# Altium schematic symbol library Connector.SCHLIB: 82 symbols
Pins are listed as number, name and electrical type; pins without a type are passive.

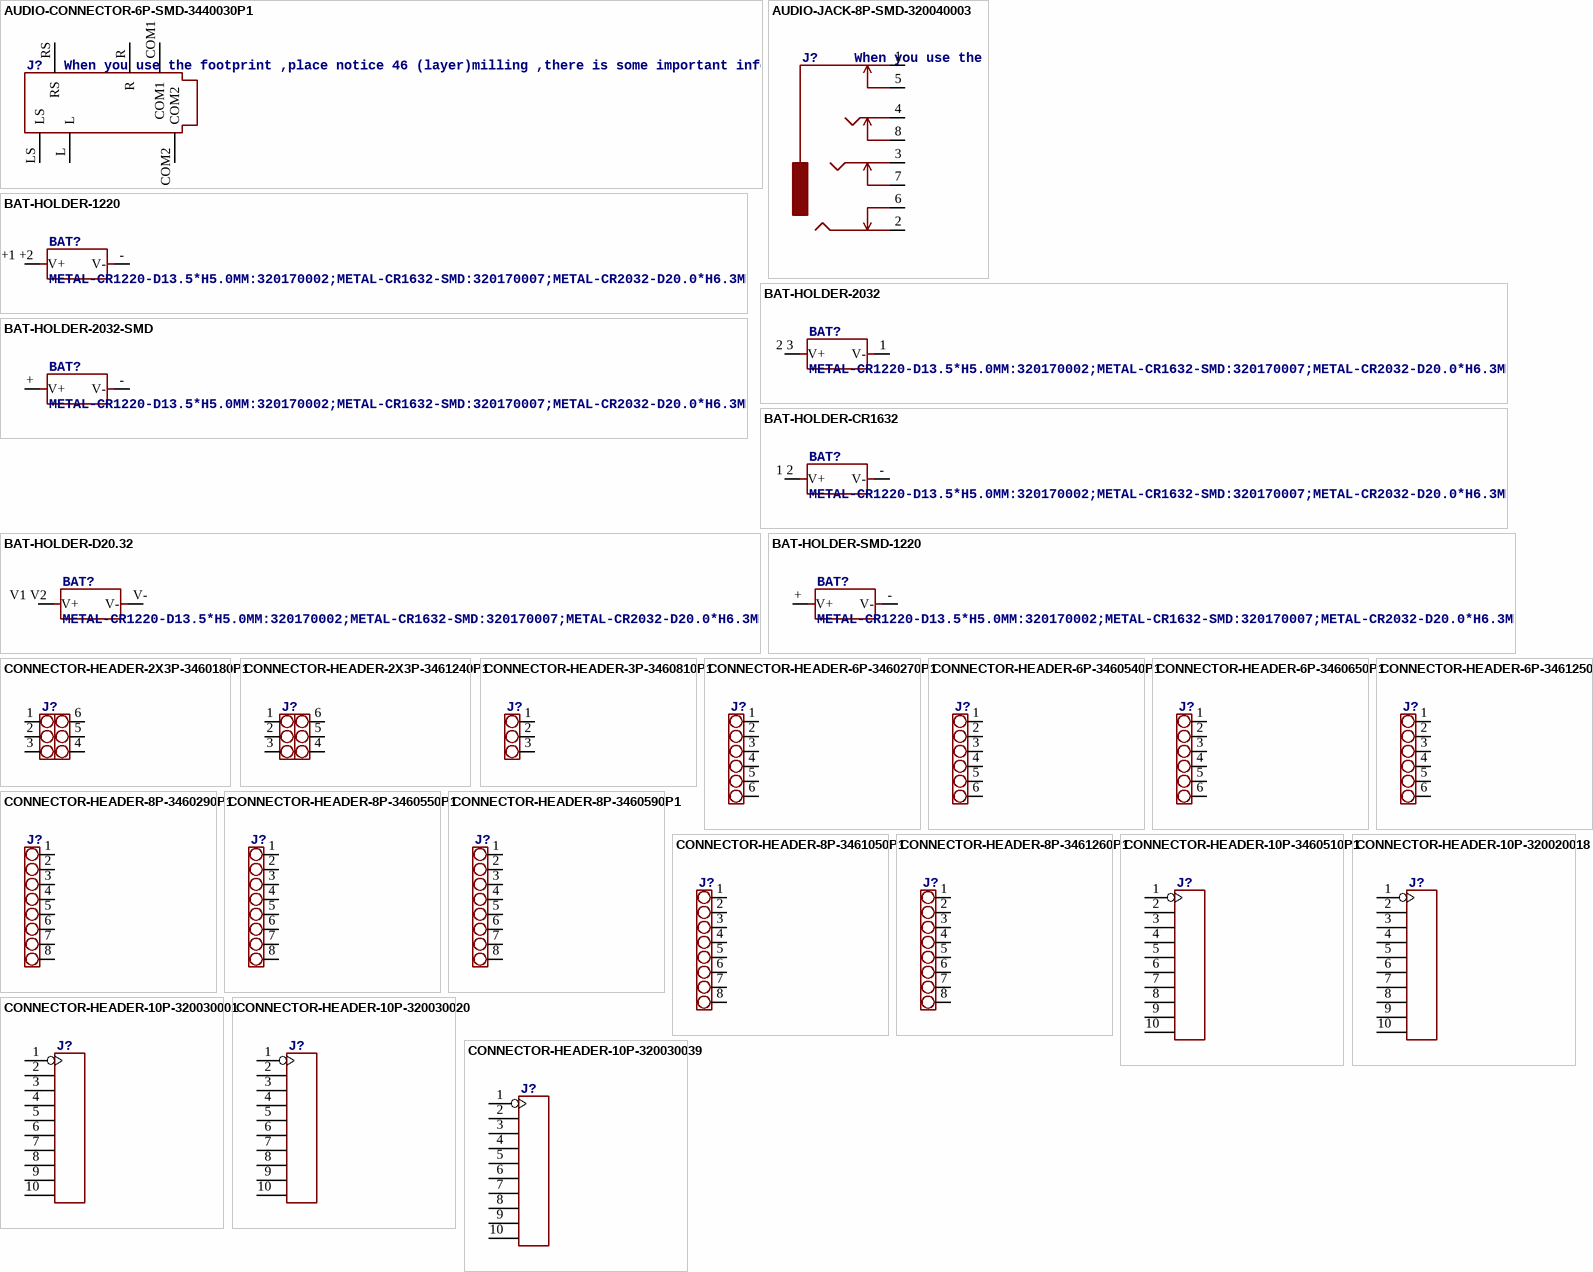
[diagram p0: symbols AUDIO-CONNECTOR-6P-SMD-3440030P1 to CONNECTOR-HEADER-10P-320030039]

## AUDIO-CONNECTOR-6P-SMD-3440030P1
designator J?, comment When you use the footprint ,place notice 46 (layer)milling ,there is some important information.
footprint 6P-SMD-3.5
pins: COM1, COM2, L, LS, R, RS

## AUDIO-JACK-8P-SMD-320040003
designator J?, comment When you use the footprint ,place notice 46 (layer)milling ,there is some important information.
footprint PJ-3536-L6S
pins: 1, 2, 3, 4, 5, 6, 7, 8

## BAT-HOLDER-1220
designator BAT?, comment METAL-CR1220-D13.5*H5.0MM:320170002;METAL-CR1632-SMD:320170007;METAL-CR2032-D20.0*H6.3MM:320170003;METAL-CR2032-SMD:320170006;PLASTIC-CR1220-L15.06*W13.0*H4.1MM:320170000;PLASTIC-CR2032-L25.2*W15.6*H5.2MM:320170005
footprint METAL-CR1220-D13.5XH5.0MM
pins: +1 +2 V+, - V-

## BAT-HOLDER-2032
designator BAT?, comment METAL-CR1220-D13.5*H5.0MM:320170002;METAL-CR1632-SMD:320170007;METAL-CR2032-D20.0*H6.3MM:320170003;METAL-CR2032-SMD:320170006;PLASTIC-CR1220-L15.06*W13.0*H4.1MM:320170000;PLASTIC-CR2032-L25.2*W15.6*H5.2MM:320170005
footprint METAL-CR2032-D20.0XH6.3MM
pins: 1 V-, 2 3 V+

## BAT-HOLDER-2032-SMD
designator BAT?, comment METAL-CR1220-D13.5*H5.0MM:320170002;METAL-CR1632-SMD:320170007;METAL-CR2032-D20.0*H6.3MM:320170003;METAL-CR2032-SMD:320170006;PLASTIC-CR1220-L15.06*W13.0*H4.1MM:320170000;PLASTIC-CR2032-L25.2*W15.6*H5.2MM:320170005
footprint PLASTIC-CR2032-L25.2XW15.6XH5.2MM
pins: + V+, - V-

## BAT-HOLDER-CR1632
designator BAT?, comment METAL-CR1220-D13.5*H5.0MM:320170002;METAL-CR1632-SMD:320170007;METAL-CR2032-D20.0*H6.3MM:320170003;METAL-CR2032-SMD:320170006;PLASTIC-CR1220-L15.06*W13.0*H4.1MM:320170000;PLASTIC-CR2032-L25.2*W15.6*H5.2MM:320170005
footprint METAL-CR1632-SMD
pins: 1 2 V+, - V-

## BAT-HOLDER-D20.32
designator BAT?, comment METAL-CR1220-D13.5*H5.0MM:320170002;METAL-CR1632-SMD:320170007;METAL-CR2032-D20.0*H6.3MM:320170003;METAL-CR2032-SMD:320170006;PLASTIC-CR1220-L15.06*W13.0*H4.1MM:320170000;PLASTIC-CR2032-L25.2*W15.6*H5.2MM:320170005
footprint METAL-CR2032-SMD
pins: V1 V2 V+, V-

## BAT-HOLDER-SMD-1220
designator BAT?, comment METAL-CR1220-D13.5*H5.0MM:320170002;METAL-CR1632-SMD:320170007;METAL-CR2032-D20.0*H6.3MM:320170003;METAL-CR2032-SMD:320170006;PLASTIC-CR1220-L15.06*W13.0*H4.1MM:320170000;PLASTIC-CR2032-L25.2*W15.6*H5.2MM:320170005
footprint PLASTIC-CR1220-L15.06XW13.0XH4.1MM
pins: + V+, - V-

## CONNECTOR-HEADER-2X3P-3460180P1
designator J?
footprint 2X3P-2.54-2.54-11.6-3.0-BLACK-MALE
pins: 1, 2, 3, 4, 5, 6

## CONNECTOR-HEADER-2X3P-3461240P1
designator J?
footprint 2X3P-2.54-8.5+1.5-12.3-BLUE-FEMALE
pins: 1, 2, 3, 4, 5, 6

## CONNECTOR-HEADER-3P-3460810P1
designator J?
footprint 1X3P-2.54-2.54-11.6-3.0-BLACK-MALE
pins: 1, 2, 3

## CONNECTOR-HEADER-6P-3460270P1
designator J?
footprint 1X6P-2.54-8.5-BLACK-FEMALE
pins: 1, 2, 3, 4, 5, 6

## CONNECTOR-HEADER-6P-3460540P1
designator J?
footprint 1X6P-2.54-8.5-WHITE-FEMALE
pins: 1, 2, 3, 4, 5, 6

## CONNECTOR-HEADER-6P-3460650P1
designator J?
footprint 1X6P-2.54-2.54-11.6-3.0-BLACK-MALE
pins: 1, 2, 3, 4, 5, 6

## CONNECTOR-HEADER-6P-3461250P1
designator J?
footprint 1X6P-2.54-8.5+2.5-12.3-BLUE-FEMALE
pins: 1, 2, 3, 4, 5, 6

## CONNECTOR-HEADER-8P-3460290P1
designator J?
footprint 1X8P-2.54-8.5-BLACK-FEMALE
pins: 1, 2, 3, 4, 5, 6, 7, 8

## CONNECTOR-HEADER-8P-3460550P1
designator J?
footprint 1X8P-2.54-8.5-WHITE-FEMALE
pins: 1, 2, 3, 4, 5, 6, 7, 8

## CONNECTOR-HEADER-8P-3460590P1
designator J?
footprint 1X8P-2.54-8.5-YELLOW-FEMALE
pins: 1, 2, 3, 4, 5, 6, 7, 8

## CONNECTOR-HEADER-8P-3461050P1
designator J?
footprint 1X8P-2.54-2.54-11.6-3.0-BALCK-MALE
pins: 1, 2, 3, 4, 5, 6, 7, 8

## CONNECTOR-HEADER-8P-3461260P1
designator J?
footprint 1X8P-2.54-8.5+2.5-12.3-BLUE-FEMALE
pins: 1, 2, 3, 4, 5, 6, 7, 8

## CONNECTOR-HEADER-10P-3460510P1
designator J?
footprint 1X10P-2.0-4.3-BLUE-FEMALE
pins: 1, 2, 3, 4, 5, 6, 7, 8, 9, 10

## CONNECTOR-HEADER-10P-320020018
designator J?
footprint 1X10P-2.0-WHITE-MALE
pins: 1, 2, 3, 4, 5, 6, 7, 8, 9, 10

## CONNECTOR-HEADER-10P-320030001
designator J?
footprint 1X10P-2.54-8.5--BLUE-FEMALE
pins: 1, 2, 3, 4, 5, 6, 7, 8, 9, 10

## CONNECTOR-HEADER-10P-320030020
designator J?
footprint 1X10P-2.0-WHITE-FEMALE
pins: 1, 2, 3, 4, 5, 6, 7, 8, 9, 10

## CONNECTOR-HEADER-10P-320030039
designator J?
footprint 1X10P-2.54-8.5-BLACK-FEMALE
pins: 1, 2, 3, 4, 5, 6, 7, 8, 9, 10

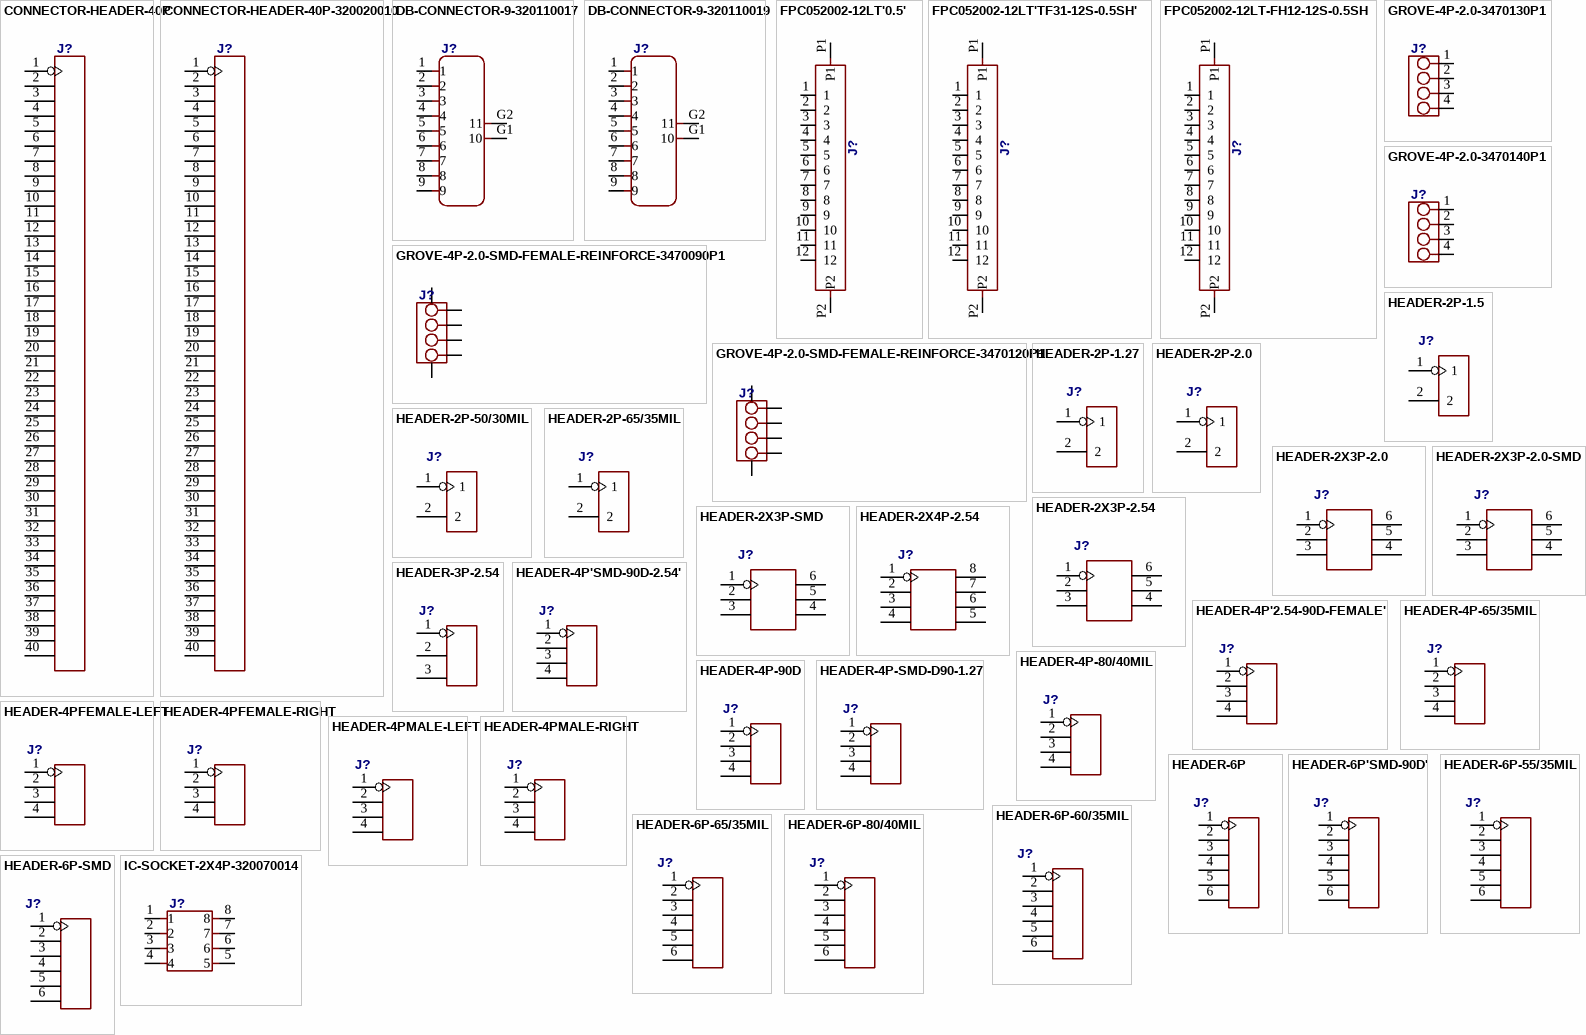
[diagram p1: symbols CONNECTOR-HEADER-40P to IC-SOCKET-2X4P-320070014]

## CONNECTOR-HEADER-40P
designator J?
footprint 1*40P-2.0-2.0-8.7-2.8MM
pins: 1 P$1, 2 P$2, 3 P$3, 4 P$4, 5 P$5, 6 P$6, 7 P$7, 8 P$8, 9 P$9, 10 P$10, 11 P$11, 12 P$12, 13 P$13, 14 P$14, 15 P$15, 16 P$16, 17 P$17, 18 P$18, 19 P$19, 20 P$20, 21 P$21, 22 P$22, 23 P$23, 24 P$24, 25 P$25, 26 P$26, 27 P$27, 28 P$28, 29 P$29, 30 P$30, 31 P$31, 32 P$32, 33 P$33, 34 P$34, 35 P$35, 36 P$36, 37 P$37, 38 P$38, 39 P$39, 40 P$40

## CONNECTOR-HEADER-40P-320020010
designator J?
footprint 1X40P-2.54-2.54-11.6-3.0-BALCK-MALE
pins: 1 P$1, 2 P$2, 3 P$3, 4 P$4, 5 P$5, 6 P$6, 7 P$7, 8 P$8, 9 P$9, 10 P$10, 11 P$11, 12 P$12, 13 P$13, 14 P$14, 15 P$15, 16 P$16, 17 P$17, 18 P$18, 19 P$19, 20 P$20, 21 P$21, 22 P$22, 23 P$23, 24 P$24, 25 P$25, 26 P$26, 27 P$27, 28 P$28, 29 P$29, 30 P$30, 31 P$31, 32 P$32, 33 P$33, 34 P$34, 35 P$35, 36 P$36, 37 P$37, 38 P$38, 39 P$39, 40 P$40

## DB-CONNECTOR-9-320110017
designator J?
footprint 9+2P-2.77-MALE
pins: 1, 2, 3, 4, 5, 6, 7, 8, 9, G1 10, G2 11

## DB-CONNECTOR-9-320110019
designator J?
footprint 9+2P-2.77-FEMALE
pins: 1, 2, 3, 4, 5, 6, 7, 8, 9, G1 10, G2 11

## FPC052002-12LT'0.5'
designator J?
footprint 12P-0.5
pins: 1, 2, 3, 4, 5, 6, 7, 8, 9, 10, 11, 12, P1, P2

## FPC052002-12LT'TF31-12S-0.5SH'
designator J?
footprint 12P-SMD-0.5-90D
pins: 1, 2, 3, 4, 5, 6, 7, 8, 9, 10, 11, 12, P1, P2

## FPC052002-12LT-FH12-12S-0.5SH
designator J?
footprint 12P-0.5-NEW
pins: 1, 2, 3, 4, 5, 6, 7, 8, 9, 10, 11, 12, P1, P2

## GROVE-4P-2.0-3470130P1
designator J?
footprint 4P-2.0
pins: 1, 2, 3, 4

## GROVE-4P-2.0-3470140P1
designator J?
footprint 4P-2.0-90D
pins: 1, 2, 3, 4

## GROVE-4P-2.0-SMD-FEMALE-REINFORCE-3470090P1
designator J?
footprint 4P-SMD-2.0
pins: 1, 2, 3, 4, SS1, SS2

## GROVE-4P-2.0-SMD-FEMALE-REINFORCE-3470120P1
designator J?
footprint 4P-SMD-2.0-90D
pins: 1, 2, 3, 4, SS1, SS2

## HEADER-2P-1.5
designator J?
footprint 2P-1.5-40/25MIL
pins: 1, 2

## HEADER-2P-1.27
designator J?
footprint 2P-1.27-40/25MIL
pins: 1, 2

## HEADER-2P-2.0
designator J?
footprint 2P-2.0-55/32MIL
pins: 1, 2

## HEADER-2P-50/30MIL
designator J?
footprint 2P-2.0-50/30MIL
pins: 1, 2

## HEADER-2P-65/35MIL
designator J?
footprint 2P-2.54-65/35MIL
pins: 1, 2

## HEADER-2X3P-2.0
designator J?
footprint 2X3P-2.0-50/32MIL
pins: 1, 2, 3, 4, 5, 6

## HEADER-2X3P-2.0-SMD
designator J?
footprint 2X3P-SMD-2.0
pins: 1, 2, 3, 4, 5, 6

## HEADER-2X3P-2.54
designator J?
footprint 2X3P-2.54-65/35MIL
pins: 1, 2, 3, 4, 5, 6

## HEADER-2X3P-SMD
designator J?
footprint 2X3P-SMD-2.54
pins: 1, 2, 3, 4, 5, 6

## HEADER-2X4P-2.54
designator J?
footprint 2X4P-2.54-65/35MIL
pins: 1, 2, 3, 4, 5, 6, 7, 8

## HEADER-3P-2.54
designator J?
footprint 3P-2.54-65/35MIL
pins: 1 P$1, 2 P$2, 3 P$3

## HEADER-4P'2.54-90D-FEMALE'
designator J?
footprint 4P-2.54-90D-65/35MIL-FEMALE
pins: 1 P$1, 2 P$2, 3 P$3, 4 P$4

## HEADER-4P'SMD-90D-2.54'
designator J?
footprint 4P-SMD-2.54-90D-FEMALE
pins: 1 P$1, 2 P$2, 3 P$3, 4 P$4

## HEADER-4P-65/35MIL
designator J?
footprint 4P-2.54-65/35MIL
pins: 1 P$1, 2 P$2, 3 P$3, 4 P$4

## HEADER-4P-80/40MIL
designator J?
footprint 4P-2.54-80/40MIL
pins: 1 P$1, 2 P$2, 3 P$3, 4 P$4

## HEADER-4P-90D
designator J?
footprint 4P-2.54-90D-65/35MIL-MALE
pins: 1 P$1, 2 P$2, 3 P$3, 4 P$4

## HEADER-4P-SMD-D90-1.27
designator J?
footprint 4P-SMD-1.27-90D
pins: 1 P$1, 2 P$2, 3 P$3, 4 P$4

## HEADER-4PFEMALE-LEFT
designator J?
footprint 4P-2.0-65/35MIL-90D-FEMALE-LEFT
pins: 1 P$1, 2 P$2, 3 P$3, 4 P$4

## HEADER-4PFEMALE-RIGHT
designator J?
footprint 4P-2.0-65/35MIL-90D-FEMALE-RIGHT
pins: 1 P$1, 2 P$2, 3 P$3, 4 P$4

## HEADER-4PMALE-LEFT
designator J?
footprint 4P-2.0-65/35MIL-90D-MALE-LEFT
pins: 1 P$1, 2 P$2, 3 P$3, 4 P$4

## HEADER-4PMALE-RIGHT
designator J?
footprint 4P-2.0-65/35MIL-90D-MALE-RIGHT
pins: 1 P$1, 2 P$2, 3 P$3, 4 P$4

## HEADER-6P
designator J?
footprint 6P-2.0-60/32MIL
pins: 1, 2, 3, 4, 5, 6

## HEADER-6P'SMD-90D'
designator J?
footprint 6P-SMD-2.54-90D
pins: 1, 2, 3, 4, 5, 6

## HEADER-6P-55/35MIL
designator J?
footprint 6P-2.54-55/35MIL
pins: 1, 2, 3, 4, 5, 6

## HEADER-6P-60/35MIL
designator J?
footprint 6P-2.54-60/35MIL
pins: 1, 2, 3, 4, 5, 6

## HEADER-6P-65/35MIL
designator J?
footprint 6P-2.54-65/35MIL
pins: 1, 2, 3, 4, 5, 6

## HEADER-6P-80/40MIL
designator J?
footprint 6P-2.54-80/40MIL
pins: 1, 2, 3, 4, 5, 6

## HEADER-6P-SMD
designator J?
footprint 6P-SMD-2.54
pins: 1, 2, 3, 4, 5, 6

## IC-SOCKET-2X4P-320070014
designator J?
footprint DIP-8
pins: 1, 2, 3, 4, 5, 6, 7, 8

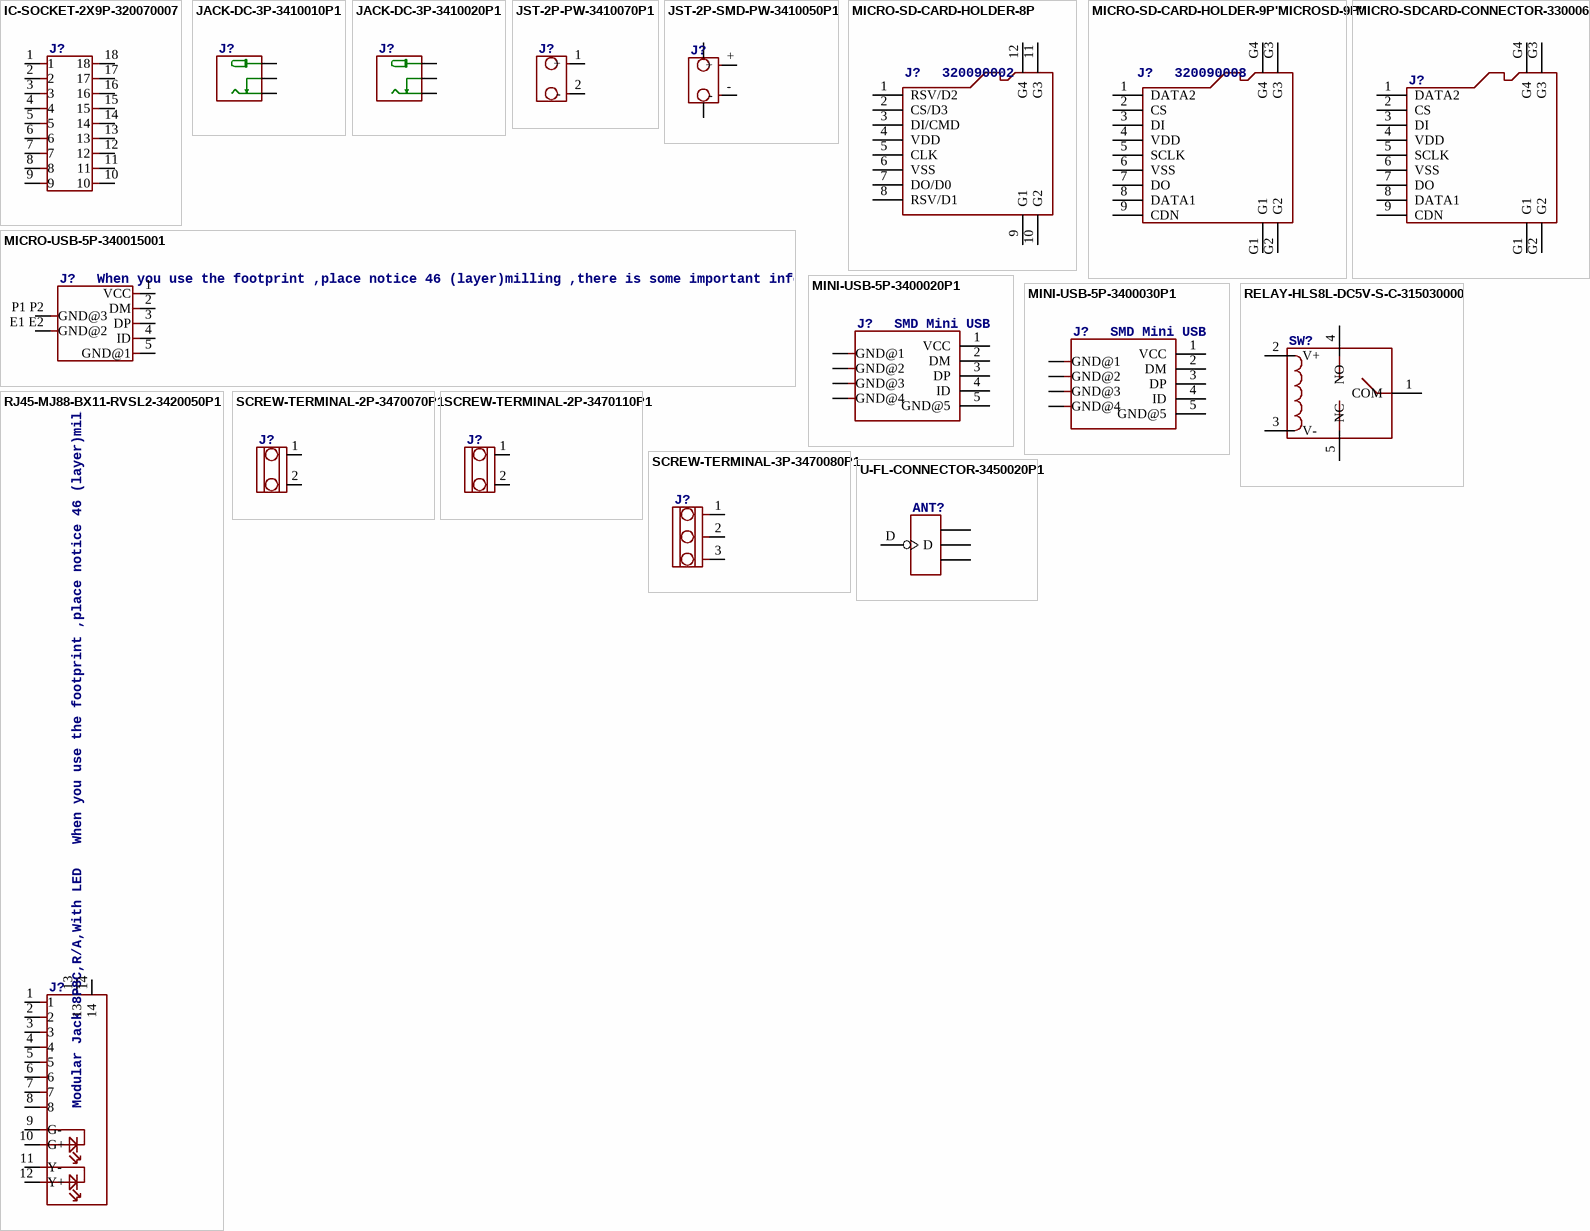
[diagram p2: symbols IC-SOCKET-2X9P-320070007 to U-FL-CONNECTOR-3450020P1]

## IC-SOCKET-2X9P-320070007
designator J?
footprint DIP-18
pins: 1, 2, 3, 4, 5, 6, 7, 8, 9, 10, 11, 12, 13, 14, 15, 16, 17, 18

## JACK-DC-3P-3410010P1
designator J?
footprint PW-3P-2.1-11.6X9.6X7.0H
pins: +, -, CDN

## JACK-DC-3P-3410020P1
designator J?
footprint PW-3P-2.1
pins: +, -1 -, -2 CDN

## JST-2P-PW-3410070P1
designator J?
footprint 2P-2.0-90D
pins: 1 +, 2 -

## JST-2P-SMD-PW-3410050P1
designator J?
footprint 2P-SMD-2.0-90D
pins: 3, 4, +, -

## MICRO-SD-CARD-HOLDER-8P
designator J?, comment 320090002
footprint 8+4P-SMD-COVER
pins: 1 RSV/D2, 2 CS/D3, 3 DI/CMD, 4 VDD, 5 CLK, 6 VSS, 7 DO/D0, 8 RSV/D1, 9 G1, 10 G2, 11 G3, 12 G4

## MICRO-SD-CARD-HOLDER-9P'MICROSD-9P'
designator J?, comment 320090008
footprint 9+4P-SMD-L16.1*W14.5*H1.85MM
pins: 1 DATA2, 2 CS, 3 DI, 4 VDD, 5 SCLK, 6 VSS, 7 DO, 8 DATA1, 9 CDN, G1, G2, G3, G4

## MICRO-SDCARD-CONNECTOR-3300060P1
designator J?
footprint 9P-SMD-W/-RING
pins: 1 DATA2, 2 CS, 3 DI, 4 VDD, 5 SCLK, 6 VSS, 7 DO, 8 DATA1, 9 CDN, G1, G2, G3, G4

## MICRO-USB-5P-340015001
designator J?, comment When you use the footprint ,place notice 46 (layer)milling ,there is some important information.
footprint B-SMD-5P
pins: 1 VCC, 2 DM, 3 DP, 4 ID, 5 GND@1, E1 E2 GND@2, P1 P2 GND@3

## MINI-USB-5P-3400020P1
designator J?, comment SMD Mini USB
footprint MINI-B-SMD
pins: 1 VCC, 2 DM, 3 DP, 4 ID, 5 GND@5, P$1 GND@1, P$2 GND@2, P$3 GND@3, P$4 GND@4

## MINI-USB-5P-3400030P1
designator J?, comment SMD Mini USB
footprint MINI-B-5P-SMD
pins: 1 VCC, 2 DM, 3 DP, 4 ID, 5 GND@5, GND@1, GND@2, GND@3, GND@4

## RELAY-HLS8L-DC5V-S-C-315030000
designator SW?
footprint 5P-L19.0XW15.0XH15.0MM
pins: 1 COM, 2 V+, 3 V-, 4 NO, 5 NC

## RJ45-MJ88-BX11-RVSL2-3420050P1
designator J?, comment Modular Jack 8P8C,R/A,With LED   When you use the footprint ,place notice 46 (layer)milling ,there is some important information.
footprint RJ45-MJ88-BX11-RVSL2
pins: 1, 2, 3, 4, 5, 6, 7, 8, 9 G-, 10 G+, 11 Y-, 12 Y+, 13, 14

## SCREW-TERMINAL-2P-3470070P1
designator J?
footprint 2P-3.5
pins: 1, 2

## SCREW-TERMINAL-2P-3470110P1
designator J?
footprint 2P-5.0
pins: 1, 2

## SCREW-TERMINAL-3P-3470080P1
designator J?
footprint 3P-5.0
pins: 1 P$1, 2 P$2, 3 P$3

## U-FL-CONNECTOR-3450020P1
designator ANT?
footprint U-FL
pins: D, GND1, GND2, GND3